# Altium integrated library Linear Technology Power Management PMIC Multifunction.IntLib: 360 symbols (part 3 of 42)
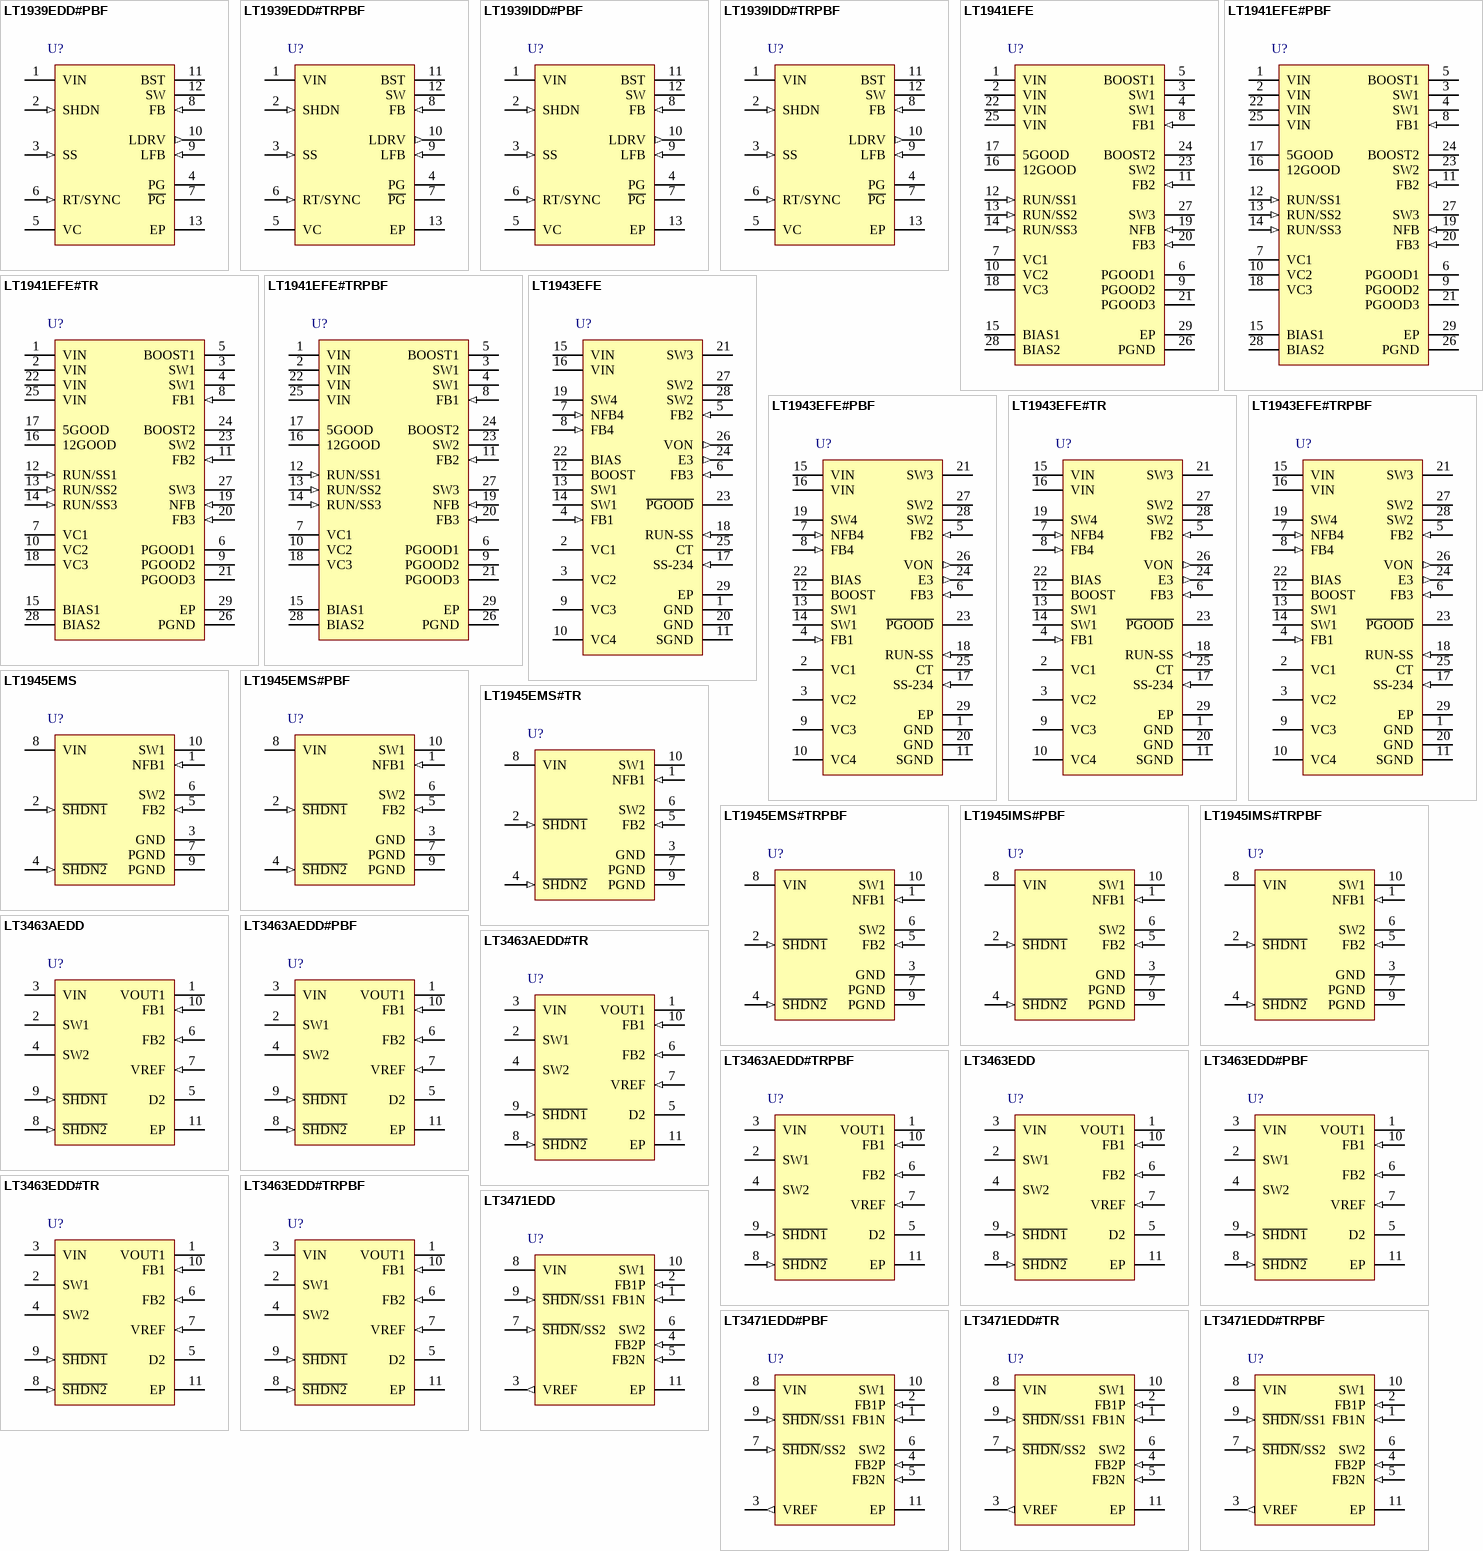
[diagram p20: symbols LT1939EDD#PBF to LT3471EDD#TRPBF]

## LT3463EDD#TRPBF
designator U?
Dual Micropower DC/DC Converters with Schottky Diodes, 2.4 to 15 V Vin, 10-pin SON (DD-10), -40 to 85 degC, Pb-Free, Tape and Reel; Manufacturer: Linear Technology; PartNumber: LT3463EDD#TRPBF; Number of Outputs: 2; Vin Max(V): 15; Vin Min(V): 2.4; PackageVersion: Rev. C, 06/2010; PackageReference: DD-10; PackageDescription: 10-Pin Plastic DFN, Body 3 x 3 mm, Pitch 0.5 mm; Supplier 1: Digi-Key; Supplier Part Number 1: LT3463EDD#TRPBF-ND; Supplier 2: Newark; Supplier Part Number 2: 57M8190; Packing: Tape and Reel; RoHS: TRUE; Mounting Technology: Surface Mount; Code_JEDEC: MO-229; ComponentLink1Description: Manufacturer URL; ComponentLink1URL: http://www.linear.com/; ComponentLink2Description: Datasheet; ComponentLink2URL: http://cds.linear.com/docs/en/datasheet/3463f.pdf; ComponentLink3Description: Package Specification; ComponentLink3URL: http://cds.linear.com/docs/en/packaging/DFN_10_05-08-1699.pdf
footprint LT-DD-10_V (SON, 10-Leads, Body 3x3mm, Pitch 0.5mm, Thermal Pad 2.38x1.65mm)
pins: 1 VOUT1 (power) "Output Voltage Switcher 1. This is the cathode of an internal Schottky diode whose anode is connected to the SW1 pin.", 2 SW1 "Switch Pin for Switcher 1. This is the collector of the internal NPN switch. Minimize the metal trace area connected to this pin to minimize EMI.", 3 VIN (power) "Input Supply Pin. Bypass this pin with a capacitor as close to the device as possible.", 4 SW2 (power) "Switch Pin for Switcher 2. This is the collector of the internal NPN switch. Minimize the metal trace area connected to this pin to minimize EMI.", 5 D2 "Diode for Switcher 2. This is the anode of an internal Schottky diode whose cathode connected to the GND pin.", 6 FB2 (in) "Feedback Pin for Switcher 2. Set the output voltage by selecting values for R3 and R4.", 7 VREF (in) "Voltage Reference Pin (1.25V). This pin is used along with FB2 to set the negative output voltage for Switcher 2.", 8 ~{SHDN2} (in) "Shutdown Pin for Switcher 2. Pull this pin above 1.5V to enable Switcher 2. Pull below 0.3V to turn it off. Do not leave this pin floating.", 9 ~{SHDN1} (in) "Shutdown Pin for Switcher 1. Pull this pin above 1.5V to enable Switcher 1. Pull below 0.3V to turn it off. Do not leave this pin floating.", 10 FB1 (in) "Feedback Pin for Switcher 1. Set the output voltage by selecting values for R1 and R2.", 11 EP (power) "Exposed Pad. Solder this exposed pad directly to the local ground plane. This pad must be electrically connected for proper operation."

## LT3471EDD
designator U?
Dual 1.3 A, 1.2 MHz Boost / Inverter, 2.4 to 16 V Vin, 10-pin SON (DD-10), -40 to 85 degC; Manufacturer: Linear Technology; PartNumber: LT3471EDD; Number of Outputs: 2; Vin Max(V): 16; Vin Min(V): 2.4; DatasheetVersion: Rev. B; PackageReference: DD-10; PackageDescription: 10-Pin Plastic DFN, Body 3 x 3 mm, Pitch 0.5 mm; Supplier 1: Newark; Supplier Part Number 1: 57M8269; RoHS: FALSE; Mounting Technology: Surface Mount; Code_JEDEC: MO-229; ComponentLink1Description: Manufacturer URL; ComponentLink1URL: http://www.linear.com/; ComponentLink2Description: Datasheet; ComponentLink2URL: http://cds.linear.com/docs/en/datasheet/3471fb.pdf; ComponentLink3Description: Package Specification; ComponentLink3URL: http://cds.linear.com/docs/en/datasheet/1618fas.pdf
footprint LT-DD-10-05-08-1698_V (SON, 10-Leads, Body 3x3mm, Pitch 0.5mm, Thermal Pad 1.65x2.38mm)
pins: 1 FB1N (in) "Negative Feedback Pin for Switcher 1. Connect resistive divider tap here. Minimize trace area at FB1N. Set VOUT = VFB1P(1 + R1/R2), or connect to ground for inverting topologies.", 2 FB1P (in) "Positive Feedback Pin for Switcher 1. Connect either to VREF or a divided down version of VREF, or connect to a resistive divider tap for inverting topologies.", 3 VREF (out) "1.00V Reference Pin. Can supply up to 1mA of current. Do not pull this pin high. Must be locally bypassed with no less than 0.01uF and no more than 1uF. A 0.1uF ceramic capacitor is recommended. Use this pin as the positive (See Datasheet)", 4 FB2P (in) "Same as FB1P but for Switcher 2.", 5 FB2N (in) "Same as FB1N but for Switcher 2.", 6 SW2 (power) "Switch Pin for Switcher 2 (Collector of internal NPN power switch). Connect inductor/diode here and minimize the metal trace area connected to this pin to minimize EMI.", 7 ~{SHDN}/SS2 (in) "Shutdown and Soft-Start Pin. Tie to 1.8V or more to enable device. Ground to shut down. Softstart function is provided when the voltage at this pin is ramped slowly to 1.8V with an external RC circuit.", 8 VIN (power) "Input Supply. Must be locally bypassed.", 9 ~{SHDN}/SS1 (in) "Same as S\H\D\N\/SS2 but for Switcher 1. Note: taking either S\H\D\N\/SS pin high will enable the part. Each switcher is individually enabled with its respective S\H\D\N\/SS pin.", 10 SW1 (power) "Same as SW2 but for Switcher 1.", 11 EP (power) "Ground. Connect directly to local ground plane. This ground plane also serves as a heat sink for optimal thermal performance."

## LT3471EDD#PBF
designator U?
Dual 1.3 A, 1.2 MHz Boost / Inverter, 2.4 to 16 V Vin, 10-pin SON (DD-10), -40 to 85 degC, Pb-Free; Manufacturer: Linear Technology; PartNumber: LT3471EDD#PBF; Number of Outputs: 2; Vin Max(V): 16; Vin Min(V): 2.4; DatasheetVersion: Rev. B; PackageReference: DD-10; PackageDescription: 10-Pin Plastic DFN, Body 3 x 3 mm, Pitch 0.5 mm; Supplier 1: Digi-Key; Supplier Part Number 1: LT3471EDD#PBF-ND; Supplier 2: Farnell; Supplier Part Number 2: 1663557; Supplier 3: Newark; Supplier Part Number 3: 57M8270; RoHS: TRUE; Mounting Technology: Surface Mount; Code_JEDEC: MO-229; ComponentLink1Description: Manufacturer URL; ComponentLink1URL: http://www.linear.com/; ComponentLink2Description: Datasheet; ComponentLink2URL: http://cds.linear.com/docs/en/datasheet/3471fb.pdf; ComponentLink3Description: Package Specification; ComponentLink3URL: http://cds.linear.com/docs/en/datasheet/1618fas.pdf
footprint LT-DD-10-05-08-1698_V (SON, 10-Leads, Body 3x3mm, Pitch 0.5mm, Thermal Pad 1.65x2.38mm)
pins: 1 FB1N (in) "Negative Feedback Pin for Switcher 1. Connect resistive divider tap here. Minimize trace area at FB1N. Set VOUT = VFB1P(1 + R1/R2), or connect to ground for inverting topologies.", 2 FB1P (in) "Positive Feedback Pin for Switcher 1. Connect either to VREF or a divided down version of VREF, or connect to a resistive divider tap for inverting topologies.", 3 VREF (out) "1.00V Reference Pin. Can supply up to 1mA of current. Do not pull this pin high. Must be locally bypassed with no less than 0.01uF and no more than 1uF. A 0.1uF ceramic capacitor is recommended. Use this pin as the positive (See Datasheet)", 4 FB2P (in) "Same as FB1P but for Switcher 2.", 5 FB2N (in) "Same as FB1N but for Switcher 2.", 6 SW2 (power) "Switch Pin for Switcher 2 (Collector of internal NPN power switch). Connect inductor/diode here and minimize the metal trace area connected to this pin to minimize EMI.", 7 ~{SHDN}/SS2 (in) "Shutdown and Soft-Start Pin. Tie to 1.8V or more to enable device. Ground to shut down. Softstart function is provided when the voltage at this pin is ramped slowly to 1.8V with an external RC circuit.", 8 VIN (power) "Input Supply. Must be locally bypassed.", 9 ~{SHDN}/SS1 (in) "Same as S\H\D\N\/SS2 but for Switcher 1. Note: taking either S\H\D\N\/SS pin high will enable the part. Each switcher is individually enabled with its respective S\H\D\N\/SS pin.", 10 SW1 (power) "Same as SW2 but for Switcher 1.", 11 EP (power) "Ground. Connect directly to local ground plane. This ground plane also serves as a heat sink for optimal thermal performance."

## LT3471EDD#TR
designator U?
Dual 1.3 A, 1.2 MHz Boost / Inverter, 2.4 to 16 V Vin, 10-pin SON (DD-10), -40 to 85 degC, Tape and Reel; Manufacturer: Linear Technology; PartNumber: LT3471EDD#TR; Number of Outputs: 2; Vin Max(V): 16; Vin Min(V): 2.4; DatasheetVersion: Rev. B; PackageReference: DD-10; PackageDescription: 10-Pin Plastic DFN, Body 3 x 3 mm, Pitch 0.5 mm; Supplier 1: Newark; Supplier Part Number 1: 57M8271; Packing: Tape and Reel; RoHS: FALSE; Mounting Technology: Surface Mount; Code_JEDEC: MO-229; ComponentLink1Description: Manufacturer URL; ComponentLink1URL: http://www.linear.com/; ComponentLink2Description: Datasheet; ComponentLink2URL: http://cds.linear.com/docs/en/datasheet/3471fb.pdf; ComponentLink3Description: Package Specification; ComponentLink3URL: http://cds.linear.com/docs/en/datasheet/1618fas.pdf
footprint LT-DD-10-05-08-1698_V (SON, 10-Leads, Body 3x3mm, Pitch 0.5mm, Thermal Pad 1.65x2.38mm)
pins: 1 FB1N (in) "Negative Feedback Pin for Switcher 1. Connect resistive divider tap here. Minimize trace area at FB1N. Set VOUT = VFB1P(1 + R1/R2), or connect to ground for inverting topologies.", 2 FB1P (in) "Positive Feedback Pin for Switcher 1. Connect either to VREF or a divided down version of VREF, or connect to a resistive divider tap for inverting topologies.", 3 VREF (out) "1.00V Reference Pin. Can supply up to 1mA of current. Do not pull this pin high. Must be locally bypassed with no less than 0.01uF and no more than 1uF. A 0.1uF ceramic capacitor is recommended. Use this pin as the positive (See Datasheet)", 4 FB2P (in) "Same as FB1P but for Switcher 2.", 5 FB2N (in) "Same as FB1N but for Switcher 2.", 6 SW2 (power) "Switch Pin for Switcher 2 (Collector of internal NPN power switch). Connect inductor/diode here and minimize the metal trace area connected to this pin to minimize EMI.", 7 ~{SHDN}/SS2 (in) "Shutdown and Soft-Start Pin. Tie to 1.8V or more to enable device. Ground to shut down. Softstart function is provided when the voltage at this pin is ramped slowly to 1.8V with an external RC circuit.", 8 VIN (power) "Input Supply. Must be locally bypassed.", 9 ~{SHDN}/SS1 (in) "Same as S\H\D\N\/SS2 but for Switcher 1. Note: taking either S\H\D\N\/SS pin high will enable the part. Each switcher is individually enabled with its respective S\H\D\N\/SS pin.", 10 SW1 (power) "Same as SW2 but for Switcher 1.", 11 EP (power) "Ground. Connect directly to local ground plane. This ground plane also serves as a heat sink for optimal thermal performance."

## LT3471EDD#TRPBF
designator U?
Dual 1.3 A, 1.2 MHz Boost / Inverter, 2.4 to 16 V Vin, 10-pin SON (DD-10), -40 to 85 degC, Pb-Free, Tape and Reel; Manufacturer: Linear Technology; PartNumber: LT3471EDD#TRPBF; Number of Outputs: 2; Vin Max(V): 16; Vin Min(V): 2.4; DatasheetVersion: Rev. B; PackageReference: DD-10; PackageDescription: 10-Pin Plastic DFN, Body 3 x 3 mm, Pitch 0.5 mm; Supplier 1: Digi-Key; Supplier Part Number 1: LT3471EDD#TRPBFTR-ND; Supplier 2: Digi-Key; Supplier Part Number 2: LT3471EDD#TRPBFCT-ND; Supplier 3: Digi-Key; Supplier Part Number 3: LT3471EDD#TRPBFDKR-ND; Supplier 4: Newark; Supplier Part Number 4: 57M8272; Packing: Tape and Reel; RoHS: TRUE; Mounting Technology: Surface Mount; Code_JEDEC: MO-229; ComponentLink1Description: Manufacturer URL; ComponentLink1URL: http://www.linear.com/; ComponentLink2Description: Datasheet; ComponentLink2URL: http://cds.linear.com/docs/en/datasheet/3471fb.pdf; ComponentLink3Description: Package Specification; ComponentLink3URL: http://cds.linear.com/docs/en/datasheet/1618fas.pdf
footprint LT-DD-10-05-08-1698_V (SON, 10-Leads, Body 3x3mm, Pitch 0.5mm, Thermal Pad 1.65x2.38mm)
pins: 1 FB1N (in) "Negative Feedback Pin for Switcher 1. Connect resistive divider tap here. Minimize trace area at FB1N. Set VOUT = VFB1P(1 + R1/R2), or connect to ground for inverting topologies.", 2 FB1P (in) "Positive Feedback Pin for Switcher 1. Connect either to VREF or a divided down version of VREF, or connect to a resistive divider tap for inverting topologies.", 3 VREF (out) "1.00V Reference Pin. Can supply up to 1mA of current. Do not pull this pin high. Must be locally bypassed with no less than 0.01uF and no more than 1uF. A 0.1uF ceramic capacitor is recommended. Use this pin as the positive (See Datasheet)", 4 FB2P (in) "Same as FB1P but for Switcher 2.", 5 FB2N (in) "Same as FB1N but for Switcher 2.", 6 SW2 (power) "Switch Pin for Switcher 2 (Collector of internal NPN power switch). Connect inductor/diode here and minimize the metal trace area connected to this pin to minimize EMI.", 7 ~{SHDN}/SS2 (in) "Shutdown and Soft-Start Pin. Tie to 1.8V or more to enable device. Ground to shut down. Softstart function is provided when the voltage at this pin is ramped slowly to 1.8V with an external RC circuit.", 8 VIN (power) "Input Supply. Must be locally bypassed.", 9 ~{SHDN}/SS1 (in) "Same as S\H\D\N\/SS2 but for Switcher 1. Note: taking either S\H\D\N\/SS pin high will enable the part. Each switcher is individually enabled with its respective S\H\D\N\/SS pin.", 10 SW1 (power) "Same as SW2 but for Switcher 1.", 11 EP (power) "Ground. Connect directly to local ground plane. This ground plane also serves as a heat sink for optimal thermal performance."

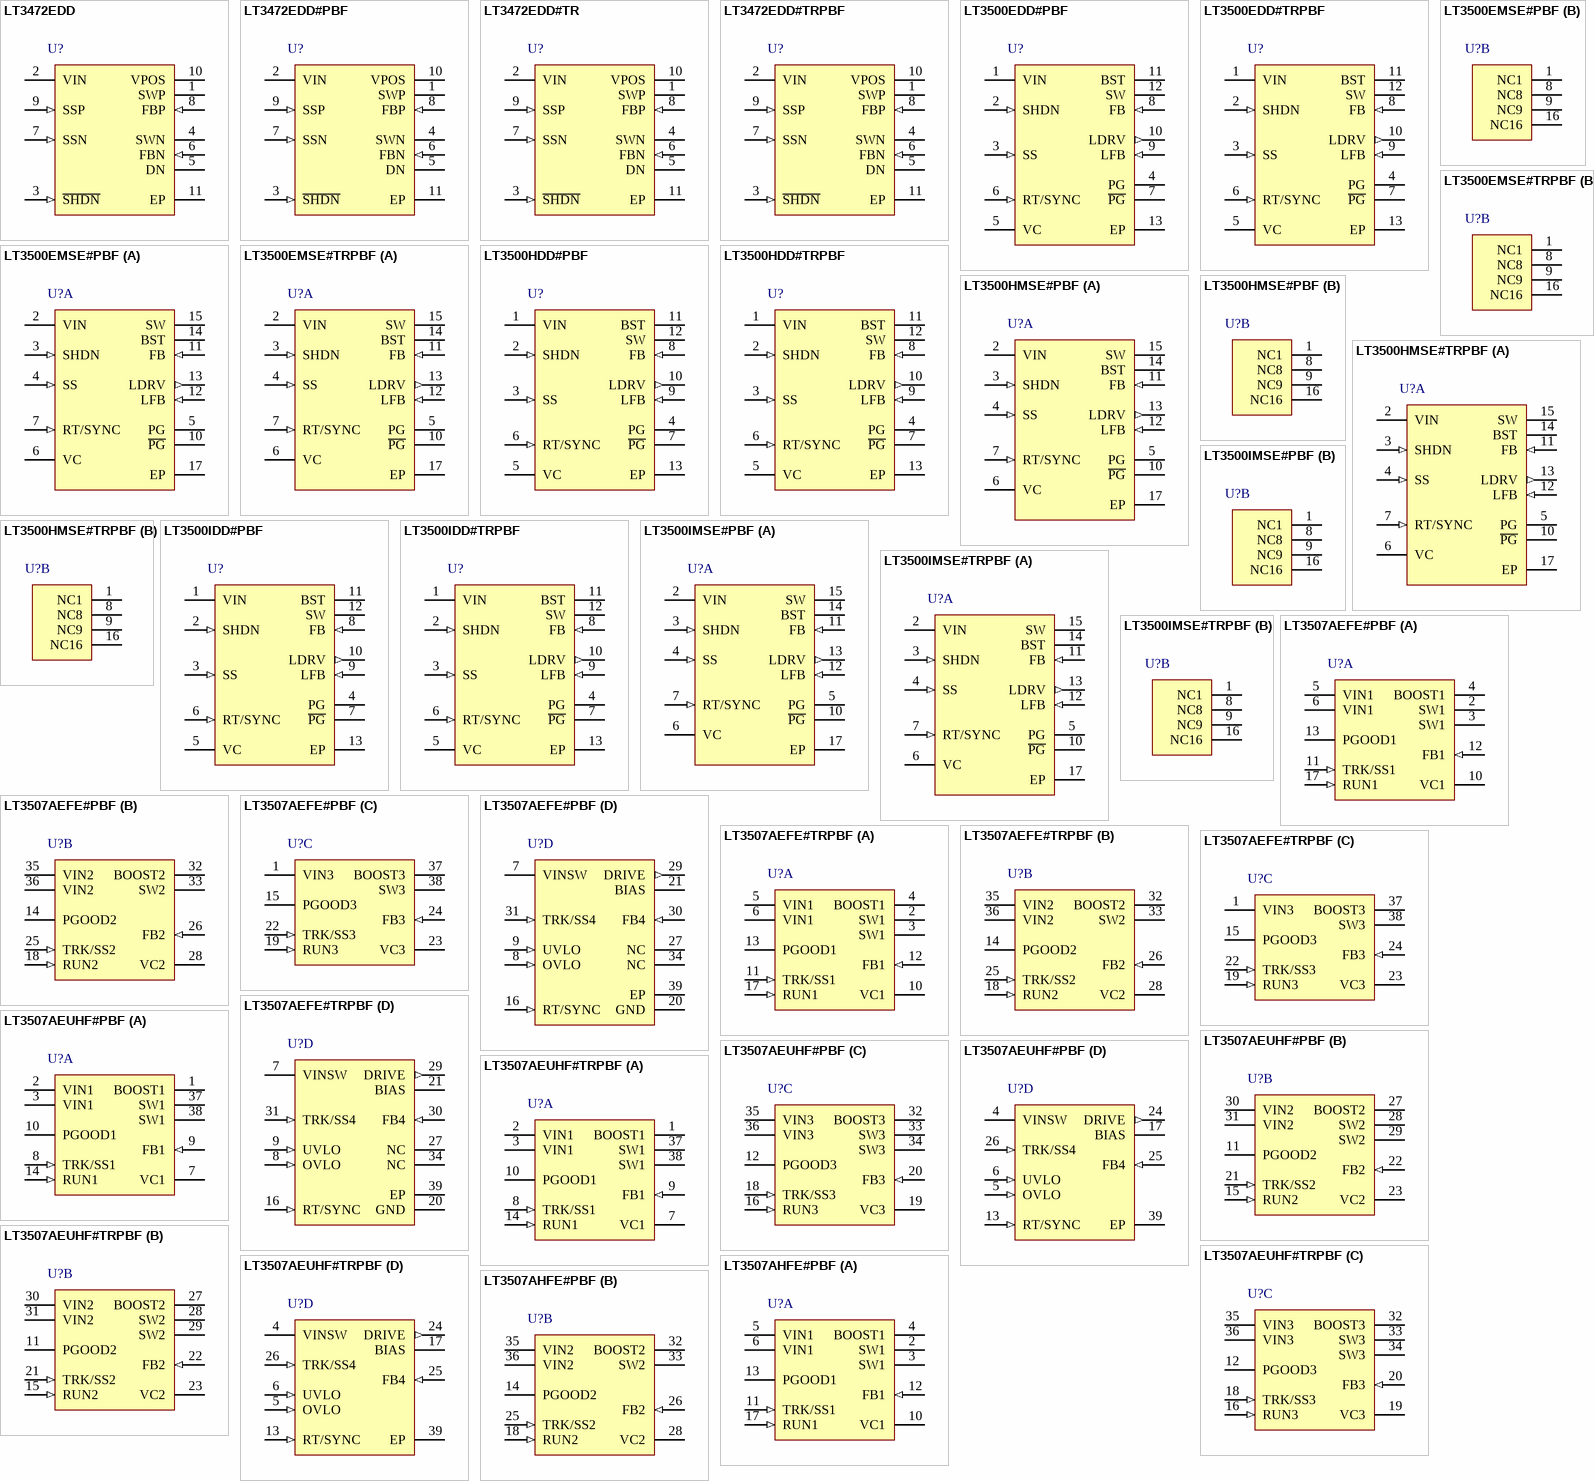
[diagram p1: symbols LT3472EDD to LT3507AHFE#PBF]

## LT3472EDD
designator U?
Boost and Inverting DC/DC Converter for CCD Bias, 2.2 to 16 V Vin, 10-pin SON (DD-10), -40 to 85 degC; Manufacturer: Linear Technology; PartNumber: LT3472EDD; Number of Outputs: 2; Vin Max(V): 16; Vin Min(V): 2.2; PackageVersion: Rev. C, 06/2010; PackageReference: DD-10; PackageDescription: 10-Pin Plastic DFN, Body 3 x 3 mm, Pitch 0.5 mm; Supplier 1: Digi-Key; Supplier Part Number 1: LT3472EDD-ND; Supplier 2: Newark; Supplier Part Number 2: 57M8273; RoHS: FALSE; Mounting Technology: Surface Mount; Code_JEDEC: MO-229; ComponentLink1Description: Manufacturer URL; ComponentLink1URL: http://www.linear.com/; ComponentLink2Description: Datasheet; ComponentLink2URL: http://cds.linear.com/docs/en/datasheet/3472f.pdf; ComponentLink3Description: Package Specification; ComponentLink3URL: http://cds.linear.com/docs/en/packaging/DFN_10_05-08-1699.pdf
footprint LT-DD-10_V (SON, 10-Leads, Body 3x3mm, Pitch 0.5mm, Thermal Pad 2.38x1.65mm)
pins: 1 SWP (power) "Switch Pin for Positive (Boost) Channel. Connect boost inductor here.", 2 VIN (power) "Input Supply Pin. Must be locally bypassed with a X5R or X7R type ceramic capacitor.", 3 ~{SHDN} (in) "Shutdown Pin. Connect to 0.8V or higher to enable device, 0.3V or less to disable device.", 4 SWN (power) "Switch Pin for Negative (Inverter) Channel. Connect inverter input inductor and flying capacitor here.", 5 DN "Anode of Internal Schottky for Inverter. Connect inverter output inductor and flying capacitor here.", 6 FBN (in) "Feedback Pin for Inverter. Connect feedback resistor R2 from this pin to VO2. Choose R2 according to VO2 = 1.25 ?R2/50k. Pin voltage = 0V when regulated.", 7 SSN (in) "Soft Start-Up Pin for Inverter. Connect a cap here for soft start-up. Leave open for quick start-up. This pin is connected to 1.25V with a 50k resistor internally.", 8 FBP (in) "Feedback Pin for Boost. Connect boost feedback resistor R1 from this Pin to VO1. Choose R1 according to VO1 = 1.25 ?(1 + R1/50k). Pin voltage = 1.25V when regulated.", 9 SSP (in) "Soft Start-Up Pin for Boost. Connect a cap here for soft start-up. Leave open for quick start-up. This pin is connected to 1.25V with a 50k resistor internally.", 10 VPOS (power) "Output Pin for Boost. Connect boost output capacitor here.", 11 EP (power) "GND Pin. Tie directly to ground plane through multiple vias under the package for optimum thermal performance."

## LT3472EDD#PBF
designator U?
Boost and Inverting DC/DC Converter for CCD Bias, 2.2 to 16 V Vin, 10-pin SON (DD-10), -40 to 85 degC, Pb-Free; Manufacturer: Linear Technology; PartNumber: LT3472EDD#PBF; Number of Outputs: 2; Vin Max(V): 16; Vin Min(V): 2.2; PackageVersion: Rev. C, 06/2010; PackageReference: DD-10; PackageDescription: 10-Pin Plastic DFN, Body 3 x 3 mm, Pitch 0.5 mm; Supplier 1: Digi-Key; Supplier Part Number 1: LT3472EDD#PBF-ND; Supplier 2: Farnell; Supplier Part Number 2: 2294905; Supplier 3: Newark; Supplier Part Number 3: 57M8274; RoHS: TRUE; Mounting Technology: Surface Mount; Code_JEDEC: MO-229; ComponentLink1Description: Manufacturer URL; ComponentLink1URL: http://www.linear.com/; ComponentLink2Description: Datasheet; ComponentLink2URL: http://cds.linear.com/docs/en/datasheet/3472f.pdf; ComponentLink3Description: Package Specification; ComponentLink3URL: http://cds.linear.com/docs/en/packaging/DFN_10_05-08-1699.pdf
footprint LT-DD-10_V (SON, 10-Leads, Body 3x3mm, Pitch 0.5mm, Thermal Pad 2.38x1.65mm)
pins: 1 SWP (power) "Switch Pin for Positive (Boost) Channel. Connect boost inductor here.", 2 VIN (power) "Input Supply Pin. Must be locally bypassed with a X5R or X7R type ceramic capacitor.", 3 ~{SHDN} (in) "Shutdown Pin. Connect to 0.8V or higher to enable device, 0.3V or less to disable device.", 4 SWN (power) "Switch Pin for Negative (Inverter) Channel. Connect inverter input inductor and flying capacitor here.", 5 DN "Anode of Internal Schottky for Inverter. Connect inverter output inductor and flying capacitor here.", 6 FBN (in) "Feedback Pin for Inverter. Connect feedback resistor R2 from this pin to VO2. Choose R2 according to VO2 = 1.25 ?R2/50k. Pin voltage = 0V when regulated.", 7 SSN (in) "Soft Start-Up Pin for Inverter. Connect a cap here for soft start-up. Leave open for quick start-up. This pin is connected to 1.25V with a 50k resistor internally.", 8 FBP (in) "Feedback Pin for Boost. Connect boost feedback resistor R1 from this Pin to VO1. Choose R1 according to VO1 = 1.25 ?(1 + R1/50k). Pin voltage = 1.25V when regulated.", 9 SSP (in) "Soft Start-Up Pin for Boost. Connect a cap here for soft start-up. Leave open for quick start-up. This pin is connected to 1.25V with a 50k resistor internally.", 10 VPOS (power) "Output Pin for Boost. Connect boost output capacitor here.", 11 EP (power) "GND Pin. Tie directly to ground plane through multiple vias under the package for optimum thermal performance."

## LT3472EDD#TR
designator U?
Boost and Inverting DC/DC Converter for CCD Bias, 2.2 to 16 V Vin, 10-pin SON (DD-10), -40 to 85 degC, Tape and Reel; Manufacturer: Linear Technology; PartNumber: LT3472EDD#TR; Number of Outputs: 2; Vin Max(V): 16; Vin Min(V): 2.2; PackageVersion: Rev. C, 06/2010; PackageReference: DD-10; PackageDescription: 10-Pin Plastic DFN, Body 3 x 3 mm, Pitch 0.5 mm; Supplier 1: Digi-Key; Supplier Part Number 1: LT3472EDD#TR-ND; Packing: Tape and Reel; RoHS: FALSE; Mounting Technology: Surface Mount; Code_JEDEC: MO-229; ComponentLink1Description: Manufacturer URL; ComponentLink1URL: http://www.linear.com/; ComponentLink2Description: Datasheet; ComponentLink2URL: http://cds.linear.com/docs/en/datasheet/3472f.pdf; ComponentLink3Description: Package Specification; ComponentLink3URL: http://cds.linear.com/docs/en/packaging/DFN_10_05-08-1699.pdf
footprint LT-DD-10_V (SON, 10-Leads, Body 3x3mm, Pitch 0.5mm, Thermal Pad 2.38x1.65mm)
pins: 1 SWP (power) "Switch Pin for Positive (Boost) Channel. Connect boost inductor here.", 2 VIN (power) "Input Supply Pin. Must be locally bypassed with a X5R or X7R type ceramic capacitor.", 3 ~{SHDN} (in) "Shutdown Pin. Connect to 0.8V or higher to enable device, 0.3V or less to disable device.", 4 SWN (power) "Switch Pin for Negative (Inverter) Channel. Connect inverter input inductor and flying capacitor here.", 5 DN "Anode of Internal Schottky for Inverter. Connect inverter output inductor and flying capacitor here.", 6 FBN (in) "Feedback Pin for Inverter. Connect feedback resistor R2 from this pin to VO2. Choose R2 according to VO2 = 1.25 ?R2/50k. Pin voltage = 0V when regulated.", 7 SSN (in) "Soft Start-Up Pin for Inverter. Connect a cap here for soft start-up. Leave open for quick start-up. This pin is connected to 1.25V with a 50k resistor internally.", 8 FBP (in) "Feedback Pin for Boost. Connect boost feedback resistor R1 from this Pin to VO1. Choose R1 according to VO1 = 1.25 ?(1 + R1/50k). Pin voltage = 1.25V when regulated.", 9 SSP (in) "Soft Start-Up Pin for Boost. Connect a cap here for soft start-up. Leave open for quick start-up. This pin is connected to 1.25V with a 50k resistor internally.", 10 VPOS (power) "Output Pin for Boost. Connect boost output capacitor here.", 11 EP (power) "GND Pin. Tie directly to ground plane through multiple vias under the package for optimum thermal performance."

## LT3472EDD#TRPBF
designator U?
Boost and Inverting DC/DC Converter for CCD Bias, 2.2 to 16 V Vin, 10-pin SON (DD-10), -40 to 85 degC, Pb-Free, Tape and Reel; Manufacturer: Linear Technology; PartNumber: LT3472EDD#TRPBF; Number of Outputs: 2; Vin Max(V): 16; Vin Min(V): 2.2; PackageVersion: Rev. C, 06/2010; PackageReference: DD-10; PackageDescription: 10-Pin Plastic DFN, Body 3 x 3 mm, Pitch 0.5 mm; Supplier 1: Digi-Key; Supplier Part Number 1: LT3472EDD#TRPBF-ND; Packing: Tape and Reel; RoHS: TRUE; Mounting Technology: Surface Mount; Code_JEDEC: MO-229; ComponentLink1Description: Manufacturer URL; ComponentLink1URL: http://www.linear.com/; ComponentLink2Description: Datasheet; ComponentLink2URL: http://cds.linear.com/docs/en/datasheet/3472f.pdf; ComponentLink3Description: Package Specification; ComponentLink3URL: http://cds.linear.com/docs/en/packaging/DFN_10_05-08-1699.pdf
footprint LT-DD-10_V (SON, 10-Leads, Body 3x3mm, Pitch 0.5mm, Thermal Pad 2.38x1.65mm)
pins: 1 SWP (power) "Switch Pin for Positive (Boost) Channel. Connect boost inductor here.", 2 VIN (power) "Input Supply Pin. Must be locally bypassed with a X5R or X7R type ceramic capacitor.", 3 ~{SHDN} (in) "Shutdown Pin. Connect to 0.8V or higher to enable device, 0.3V or less to disable device.", 4 SWN (power) "Switch Pin for Negative (Inverter) Channel. Connect inverter input inductor and flying capacitor here.", 5 DN "Anode of Internal Schottky for Inverter. Connect inverter output inductor and flying capacitor here.", 6 FBN (in) "Feedback Pin for Inverter. Connect feedback resistor R2 from this pin to VO2. Choose R2 according to VO2 = 1.25 ?R2/50k. Pin voltage = 0V when regulated.", 7 SSN (in) "Soft Start-Up Pin for Inverter. Connect a cap here for soft start-up. Leave open for quick start-up. This pin is connected to 1.25V with a 50k resistor internally.", 8 FBP (in) "Feedback Pin for Boost. Connect boost feedback resistor R1 from this Pin to VO1. Choose R1 according to VO1 = 1.25 ?(1 + R1/50k). Pin voltage = 1.25V when regulated.", 9 SSP (in) "Soft Start-Up Pin for Boost. Connect a cap here for soft start-up. Leave open for quick start-up. This pin is connected to 1.25V with a 50k resistor internally.", 10 VPOS (power) "Output Pin for Boost. Connect boost output capacitor here.", 11 EP (power) "GND Pin. Tie directly to ground plane through multiple vias under the package for optimum thermal performance."

## LT3500EDD#PBF
designator U?
Monolithic 2 A Step-Down Regulator Plus Linear Regulator / Controller, 3 to 36 V Vin, 12-pin SON (DD-12), -40 to 125 degC, Pb-Free; Manufacturer: Linear Technology; PartNumber: LT3500EDD#PBF; Number of Outputs: 2; Vin Max(V): 36; Vin Min(V): 3; DatasheetVersion: Rev. C; PackageVersion: Rev. A, 06/2010; PackageReference: DD-12; PackageDescription: 12-Pin Plastic DFN, Body 3 x 3 mm, Pitch 0.45 mm; Supplier 1: Digi-Key; Supplier Part Number 1: LT3500EDD#PBF-ND; Supplier 2: Newark; Supplier Part Number 2: 57M8446; RoHS: TRUE; Mounting Technology: Surface Mount; ComponentLink1Description: Manufacturer URL; ComponentLink1URL: http://www.linear.com/; ComponentLink2Description: Datasheet; ComponentLink2URL: http://cds.linear.com/docs/en/datasheet/3500fc.pdf; ComponentLink3Description: Package Specification; ComponentLink3URL: http://cds.linear.com/docs/en/packaging/DFN_12_05-08-1725.pdf
footprint LT-DD-12_V (SON, 12-Leads, Body 3x3mm, Pitch 0.45mm, Thermal Pad 2.38x1.65mm)
pins: 1 VIN (power) "The VIN pin powers the internal control circuitry and is monitored by an undervoltage comparator. The VIN pin is also connected to the collectors of the internal power NPN switch and linear output NPN. The VIN pin has high (See Datasheet)", 2 SHDN (in), 3 SS (in) "The SS pin is used to control the slew rate of the output of both the switching and linear regulators. A single capacitor from the SS pin to ground determines the regulators’ ramp rate. For soft-start details see th(See Datasheet)", 4 PG (oc) "The power good pin is an open-collector output that sinks current when the FB or LFB falls below 90% of its nominal regulating voltage. For VIN above 2V, its output state remains true, although during SHDN, VIN undervoltage (See Datasheet)", 5 VC "The VC pin is the output of the error amplifier and the input to the peak switch current comparator. It is normally used for frequency compensation, but can also be used as a current clamp or control loop override. If the (See Datasheet)", 6 RT/SYNC (in) "This RT/SYNC pin provides two modes of setting the constant switch frequency. Connecting a resistor from the RT/SYNC pin to ground will set the RT/SYNC pin to a typical value of 1V. The resultant switching frequency will be (See Datasheet)", 7 ~{PG} (oc) "The power good bar pin is an open-collector output that sinks current when the FB or LFB rises above 90% of its nominal regulating voltage.", 8 FB (in) "The FB pin is the negative input to the switcher error amplifier. The output switches to regulate this pin to 0.8V with respect to the exposed ground pad. Bias current flows out of the FB pin.", 9 LFB (in) "The LFB pin is the negative input to the linear error amplifier. The LDRV pin servo’s to regulate this pin to 0.8V with respect to the exposed ground pad. Bias current flows out of the LFB pin.", 10 LDRV (out) "The LDRV pin is the emitter of an internal NPN that can be configured as an output of a linear regulator or as the drive for an external NPN high current regulator. Current fl ows out of the LDRV pin when the LFB pin voltage (See Datasheet)", 11 BST "The BST pin provides a higher than VIN base drive to the power NPN to ensure a low switch drop. A comparator to VIN imposes a minimum off time on the SW pin if the BST pin voltage drops too low. Forcing a SW off time allows (See Datasheet)", 12 SW (power) "The SW pin is the emitter of the on-chip power NPN. At switch off, the inductor will drive this pin below ground with a high dV/dt. An external catch diode to ground, close to the SW pin and respective VIN decoupling (See Datasheet)", 13 EP (power) "GND. The Exposed Pad is the only ground connection for the device. The Exposed Pad should be soldered to a large copper area to reduce thermal resistance. The GND pin also serves as small-signal ground. For ideal operation (See Datasheet)"

## LT3500EDD#TRPBF
designator U?
Monolithic 2 A Step-Down Regulator Plus Linear Regulator / Controller, 3 to 36 V Vin, 12-pin SON (DD-12), -40 to 125 degC, Pb-Free, Tape and Reel; Manufacturer: Linear Technology; PartNumber: LT3500EDD#TRPBF; Number of Outputs: 2; Vin Max(V): 36; Vin Min(V): 3; DatasheetVersion: Rev. C; PackageVersion: Rev. A, 06/2010; PackageReference: DD-12; PackageDescription: 12-Pin Plastic DFN, Body 3 x 3 mm, Pitch 0.45 mm; Supplier 1: Digi-Key; Supplier Part Number 1: LT3500EDD#TRPBF-ND; Packing: Tape and Reel; RoHS: TRUE; Mounting Technology: Surface Mount; ComponentLink1Description: Manufacturer URL; ComponentLink1URL: http://www.linear.com/; ComponentLink2Description: Datasheet; ComponentLink2URL: http://cds.linear.com/docs/en/datasheet/3500fc.pdf; ComponentLink3Description: Package Specification; ComponentLink3URL: http://cds.linear.com/docs/en/packaging/DFN_12_05-08-1725.pdf
footprint LT-DD-12_V (SON, 12-Leads, Body 3x3mm, Pitch 0.45mm, Thermal Pad 2.38x1.65mm)
pins: 1 VIN (power) "The VIN pin powers the internal control circuitry and is monitored by an undervoltage comparator. The VIN pin is also connected to the collectors of the internal power NPN switch and linear output NPN. The VIN pin has high (See Datasheet)", 2 SHDN (in), 3 SS (in) "The SS pin is used to control the slew rate of the output of both the switching and linear regulators. A single capacitor from the SS pin to ground determines the regulators’ ramp rate. For soft-start details see th(See Datasheet)", 4 PG (oc) "The power good pin is an open-collector output that sinks current when the FB or LFB falls below 90% of its nominal regulating voltage. For VIN above 2V, its output state remains true, although during SHDN, VIN undervoltage (See Datasheet)", 5 VC "The VC pin is the output of the error amplifier and the input to the peak switch current comparator. It is normally used for frequency compensation, but can also be used as a current clamp or control loop override. If the (See Datasheet)", 6 RT/SYNC (in) "This RT/SYNC pin provides two modes of setting the constant switch frequency. Connecting a resistor from the RT/SYNC pin to ground will set the RT/SYNC pin to a typical value of 1V. The resultant switching frequency will be (See Datasheet)", 7 ~{PG} (oc) "The power good bar pin is an open-collector output that sinks current when the FB or LFB rises above 90% of its nominal regulating voltage.", 8 FB (in) "The FB pin is the negative input to the switcher error amplifier. The output switches to regulate this pin to 0.8V with respect to the exposed ground pad. Bias current flows out of the FB pin.", 9 LFB (in) "The LFB pin is the negative input to the linear error amplifier. The LDRV pin servo’s to regulate this pin to 0.8V with respect to the exposed ground pad. Bias current flows out of the LFB pin.", 10 LDRV (out) "The LDRV pin is the emitter of an internal NPN that can be configured as an output of a linear regulator or as the drive for an external NPN high current regulator. Current fl ows out of the LDRV pin when the LFB pin voltage (See Datasheet)", 11 BST "The BST pin provides a higher than VIN base drive to the power NPN to ensure a low switch drop. A comparator to VIN imposes a minimum off time on the SW pin if the BST pin voltage drops too low. Forcing a SW off time allows (See Datasheet)", 12 SW (power) "The SW pin is the emitter of the on-chip power NPN. At switch off, the inductor will drive this pin below ground with a high dV/dt. An external catch diode to ground, close to the SW pin and respective VIN decoupling (See Datasheet)", 13 EP (power) "GND. The Exposed Pad is the only ground connection for the device. The Exposed Pad should be soldered to a large copper area to reduce thermal resistance. The GND pin also serves as small-signal ground. For ideal operation (See Datasheet)"

## LT3500EMSE#PBF
designator U?
Monolithic 2 A Step-Down Regulator Plus Linear Regulator / Controller, 3 to 36 V Vin, 16-pin SOP (MSE-16-EDP), -40 to 125 degC, Pb-Free; Manufacturer: Linear Technology; PartNumber: LT3500EMSE#PBF; Number of Outputs: 2; Vin Max(V): 36; Vin Min(V): 3; DatasheetVersion: Rev. C; PackageVersion: Rev. F, 05/2013; PackageReference: MSE-16; PackageDescription: 16-Pin Plastic MSOP, Exposed Die Pad, Body 4.039 x 3 mm, Pitch 0.5 mm; Supplier 1: Digi-Key; Supplier Part Number 1: LT3500EMSE#PBF-ND; Supplier 2: Farnell; Supplier Part Number 2: 1673517; Supplier 3: Newark; Supplier Part Number 3: 12P8627; RoHS: TRUE; Mounting Technology: Surface Mount; ComponentLink1Description: Manufacturer URL; ComponentLink1URL: http://www.linear.com/; ComponentLink2Description: Datasheet; ComponentLink2URL: http://cds.linear.com/docs/en/datasheet/3500fc.pdf; ComponentLink3Description: Package Specification; ComponentLink3URL: http://cds.linear.com/docs/en/packaging/05081667_F_MSE16.pdf
footprint LT-MSE-16-EDP_N (SOP, 16-Leads, Body 4.1x3.1mm, Pitch 0.5mm, Thermal Pad 2.95x1.76mm, IPC Medium Density)
footprint LT-MSE-16-EDP_L (SOP, 16-Leads, Body 4.1x3.1mm, Pitch 0.5mm, Thermal Pad 2.95x1.76mm, IPC High Density)
footprint LT-MSE-16-EDP_M (SOP, 16-Leads, Body 4.1x3.1mm, Pitch 0.5mm, Thermal Pad 2.95x1.76mm, IPC Low Density)
part A pins: 2 VIN (power) "The VIN pin powers the internal control circuitry and is monitored by an undervoltage comparator. The VIN pin is also connected to the collectors of the internal power NPN switch and linear output NPN. The VIN pin has high (See Datasheet)", 3 SHDN (in) "The SHDN pin is used to shut down the LT3500 and reduce quiescent current to a typical value of 12uA. The accurate 0.76V threshold and input current hysteresis can be used as an undervoltage lockout, preventing the regulator (See Datasheet)", 4 SS (in) "The SS pin is used to control the slew rate of the output of both the switching and linear regulators. A single capacitor from the SS pin to ground determines the regulators?ramp rate. For soft-start details see th(See Datasheet)", 5 PG (oc) "The power good pin is an open-collector output that sinks current when the FB or LFB falls below 90% of its nominal regulating voltage. For VIN above 2V, its output state remains true, although during SHDN, VIN undervoltage (See Datasheet)", 6 VC "The VC pin is the output of the error amplifier and the input to the peak switch current comparator. It is normally used for frequency compensation, but can also be used as a current clamp or control loop override. If the (See Datasheet)", 7 RT/SYNC (in) "This RT/SYNC pin provides two modes of setting the constant switch frequency. Connecting a resistor from the RT/SYNC pin to ground will set the RT/SYNC pin to a typical value of 1V. The resultant switching frequency will be (See Datasheet)", 10 ~{PG} (oc) "The power good bar pin is an open-collector output that sinks current when the FB or LFB rises above 90% of its nominal regulating voltage.", 11 FB (in) "The FB pin is the negative input to the switcher error amplifier. The output switches to regulate this pin to 0.8V with respect to the exposed ground pad. Bias current flows out of the FB pin.", 12 LFB (in) "The LFB pin is the negative input to the linear error amplifier. The LDRV pin servo’s to regulate this pin to 0.8V with respect to the exposed ground pad. Bias current flows out of the LFB pin.", 13 LDRV (out) "The LDRV pin is the emitter of an internal NPN that can be confi gured as an output of a linear regulator or as the drive for an external NPN high current regulator. Current flows out of the LDRV pin when the LFB pin voltage (See Datasheet)", 14 BST "The BST pin provides a higher than VIN base drive to the power NPN to ensure a low switch drop. A comparator to VIN imposes a minimum off time on the SW pin if the BST pin voltage drops too low. Forcing a SW off time allows (See Datasheet)", 15 SW (power) "The SW pin is the emitter of the on-chip power NPN. At switch off, the inductor will drive this pin below ground with a high dV/dt. An external catch diode to ground, close to the SW pin and respective VIN decoupling (See Datasheet)", 17 EP (power) "GND. The exposed pad is the only ground connection for the device. The exposed pad should be soldered to a large copper area to reduce thermal resistance. The GND pin also serves as small-signal ground. For ideal operation (See Datasheet)"
part B pins: 1 NC1 "No Connection. The NC pins are electrically isolated from the LT3500. The NC pins may be connected to PCB traces to aid PCB layout.", 8 NC8 "No Connection. The NC pins are electrically isolated from the LT3500. The NC pins may be connected to PCB traces to aid PCB layout.", 9 NC9 "No Connection. The NC pins are electrically isolated from the LT3500. The NC pins may be connected to PCB traces to aid PCB layout.", 16 NC16 "No Connection. The NC pins are electrically isolated from the LT3500. The NC pins may be connected to PCB traces to aid PCB layout."

## LT3500EMSE#TRPBF
designator U?
Monolithic 2 A Step-Down Regulator Plus Linear Regulator / Controller, 3 to 36 V Vin, 16-pin SOP (MSE-16-EDP), -40 to 125 degC, Pb-Free, Tape and Reel; Manufacturer: Linear Technology; PartNumber: LT3500EMSE#TRPBF; Number of Outputs: 2; Vin Max(V): 36; Vin Min(V): 3; DatasheetVersion: Rev. C; PackageVersion: Rev. F, 05/2013; PackageReference: MSE-16; PackageDescription: 16-Pin Plastic MSOP, Exposed Die Pad, Body 4.039 x 3 mm, Pitch 0.5 mm; Supplier 1: Digi-Key; Supplier Part Number 1: LT3500EMSE#TRPBF-ND; Supplier 2: Newark; Supplier Part Number 2: 31P7612; Packing: Tape and Reel; RoHS: TRUE; Mounting Technology: Surface Mount; ComponentLink1Description: Manufacturer URL; ComponentLink1URL: http://www.linear.com/; ComponentLink2Description: Datasheet; ComponentLink2URL: http://cds.linear.com/docs/en/datasheet/3500fc.pdf; ComponentLink3Description: Package Specification; ComponentLink3URL: http://cds.linear.com/docs/en/packaging/05081667_F_MSE16.pdf
footprint LT-MSE-16-EDP_N (SOP, 16-Leads, Body 4.1x3.1mm, Pitch 0.5mm, Thermal Pad 2.95x1.76mm, IPC Medium Density)
footprint LT-MSE-16-EDP_L (SOP, 16-Leads, Body 4.1x3.1mm, Pitch 0.5mm, Thermal Pad 2.95x1.76mm, IPC High Density)
footprint LT-MSE-16-EDP_M (SOP, 16-Leads, Body 4.1x3.1mm, Pitch 0.5mm, Thermal Pad 2.95x1.76mm, IPC Low Density)
part A pins: 2 VIN (power) "The VIN pin powers the internal control circuitry and is monitored by an undervoltage comparator. The VIN pin is also connected to the collectors of the internal power NPN switch and linear output NPN. The VIN pin has high (See Datasheet)", 3 SHDN (in) "The SHDN pin is used to shut down the LT3500 and reduce quiescent current to a typical value of 12uA. The accurate 0.76V threshold and input current hysteresis can be used as an undervoltage lockout, preventing the regulator (See Datasheet)", 4 SS (in) "The SS pin is used to control the slew rate of the output of both the switching and linear regulators. A single capacitor from the SS pin to ground determines the regulators?ramp rate. For soft-start details see th(See Datasheet)", 5 PG (oc) "The power good pin is an open-collector output that sinks current when the FB or LFB falls below 90% of its nominal regulating voltage. For VIN above 2V, its output state remains true, although during SHDN, VIN undervoltage (See Datasheet)", 6 VC "The VC pin is the output of the error amplifier and the input to the peak switch current comparator. It is normally used for frequency compensation, but can also be used as a current clamp or control loop override. If the (See Datasheet)", 7 RT/SYNC (in) "This RT/SYNC pin provides two modes of setting the constant switch frequency. Connecting a resistor from the RT/SYNC pin to ground will set the RT/SYNC pin to a typical value of 1V. The resultant switching frequency will be (See Datasheet)", 10 ~{PG} (oc) "The power good bar pin is an open-collector output that sinks current when the FB or LFB rises above 90% of its nominal regulating voltage.", 11 FB (in) "The FB pin is the negative input to the switcher error amplifier. The output switches to regulate this pin to 0.8V with respect to the exposed ground pad. Bias current flows out of the FB pin.", 12 LFB (in) "The LFB pin is the negative input to the linear error amplifier. The LDRV pin servo’s to regulate this pin to 0.8V with respect to the exposed ground pad. Bias current flows out of the LFB pin.", 13 LDRV (out) "The LDRV pin is the emitter of an internal NPN that can be confi gured as an output of a linear regulator or as the drive for an external NPN high current regulator. Current flows out of the LDRV pin when the LFB pin voltage (See Datasheet)", 14 BST "The BST pin provides a higher than VIN base drive to the power NPN to ensure a low switch drop. A comparator to VIN imposes a minimum off time on the SW pin if the BST pin voltage drops too low. Forcing a SW off time allows (See Datasheet)", 15 SW (power) "The SW pin is the emitter of the on-chip power NPN. At switch off, the inductor will drive this pin below ground with a high dV/dt. An external catch diode to ground, close to the SW pin and respective VIN decoupling (See Datasheet)", 17 EP (power) "GND. The exposed pad is the only ground connection for the device. The exposed pad should be soldered to a large copper area to reduce thermal resistance. The GND pin also serves as small-signal ground. For ideal operation (See Datasheet)"
part B pins: 1 NC1 "No Connection. The NC pins are electrically isolated from the LT3500. The NC pins may be connected to PCB traces to aid PCB layout.", 8 NC8 "No Connection. The NC pins are electrically isolated from the LT3500. The NC pins may be connected to PCB traces to aid PCB layout.", 9 NC9 "No Connection. The NC pins are electrically isolated from the LT3500. The NC pins may be connected to PCB traces to aid PCB layout.", 16 NC16 "No Connection. The NC pins are electrically isolated from the LT3500. The NC pins may be connected to PCB traces to aid PCB layout."

## LT3500HDD#PBF
designator U?
Monolithic 2 A Step-Down Regulator Plus Linear Regulator / Controller, 3 to 36 V Vin, 12-pin SON (DD-12), -40 to 150 degC, Pb-Free; Manufacturer: Linear Technology; PartNumber: LT3500HDD#PBF; Number of Outputs: 2; Vin Max(V): 36; Vin Min(V): 3; DatasheetVersion: Rev. C; PackageVersion: Rev. A, 06/2010; PackageReference: DD-12; PackageDescription: 12-Pin Plastic DFN, Body 3 x 3 mm, Pitch 0.45 mm; Supplier 1: Digi-Key; Supplier Part Number 1: LT3500HDD#PBF-ND; RoHS: TRUE; Mounting Technology: Surface Mount; ComponentLink1Description: Manufacturer URL; ComponentLink1URL: http://www.linear.com/; ComponentLink2Description: Datasheet; ComponentLink2URL: http://cds.linear.com/docs/en/datasheet/3500fc.pdf; ComponentLink3Description: Package Specification; ComponentLink3URL: http://cds.linear.com/docs/en/packaging/DFN_12_05-08-1725.pdf
footprint LT-DD-12_V (SON, 12-Leads, Body 3x3mm, Pitch 0.45mm, Thermal Pad 2.38x1.65mm)
pins: 1 VIN (power) "The VIN pin powers the internal control circuitry and is monitored by an undervoltage comparator. The VIN pin is also connected to the collectors of the internal power NPN switch and linear output NPN. The VIN pin has high (See Datasheet)", 2 SHDN (in), 3 SS (in) "The SS pin is used to control the slew rate of the output of both the switching and linear regulators. A single capacitor from the SS pin to ground determines the regulators’ ramp rate. For soft-start details see th(See Datasheet)", 4 PG (oc) "The power good pin is an open-collector output that sinks current when the FB or LFB falls below 90% of its nominal regulating voltage. For VIN above 2V, its output state remains true, although during SHDN, VIN undervoltage (See Datasheet)", 5 VC "The VC pin is the output of the error amplifier and the input to the peak switch current comparator. It is normally used for frequency compensation, but can also be used as a current clamp or control loop override. If the (See Datasheet)", 6 RT/SYNC (in) "This RT/SYNC pin provides two modes of setting the constant switch frequency. Connecting a resistor from the RT/SYNC pin to ground will set the RT/SYNC pin to a typical value of 1V. The resultant switching frequency will be (See Datasheet)", 7 ~{PG} (oc) "The power good bar pin is an open-collector output that sinks current when the FB or LFB rises above 90% of its nominal regulating voltage.", 8 FB (in) "The FB pin is the negative input to the switcher error amplifier. The output switches to regulate this pin to 0.8V with respect to the exposed ground pad. Bias current flows out of the FB pin.", 9 LFB (in) "The LFB pin is the negative input to the linear error amplifier. The LDRV pin servo’s to regulate this pin to 0.8V with respect to the exposed ground pad. Bias current flows out of the LFB pin.", 10 LDRV (out) "The LDRV pin is the emitter of an internal NPN that can be configured as an output of a linear regulator or as the drive for an external NPN high current regulator. Current fl ows out of the LDRV pin when the LFB pin voltage (See Datasheet)", 11 BST "The BST pin provides a higher than VIN base drive to the power NPN to ensure a low switch drop. A comparator to VIN imposes a minimum off time on the SW pin if the BST pin voltage drops too low. Forcing a SW off time allows (See Datasheet)", 12 SW (power) "The SW pin is the emitter of the on-chip power NPN. At switch off, the inductor will drive this pin below ground with a high dV/dt. An external catch diode to ground, close to the SW pin and respective VIN decoupling (See Datasheet)", 13 EP (power) "GND. The Exposed Pad is the only ground connection for the device. The Exposed Pad should be soldered to a large copper area to reduce thermal resistance. The GND pin also serves as small-signal ground. For ideal operation (See Datasheet)"

## LT3500HDD#TRPBF
designator U?
Monolithic 2 A Step-Down Regulator Plus Linear Regulator / Controller, 3 to 36 V Vin, 12-pin SON (DD-12), -40 to 150 degC, Pb-Free, Tape and Reel; Manufacturer: Linear Technology; PartNumber: LT3500HDD#TRPBF; Number of Outputs: 2; Vin Max(V): 36; Vin Min(V): 3; DatasheetVersion: Rev. C; PackageVersion: Rev. A, 06/2010; PackageReference: DD-12; PackageDescription: 12-Pin Plastic DFN, Body 3 x 3 mm, Pitch 0.45 mm; Supplier 1: Digi-Key; Supplier Part Number 1: LT3500HDD#TRPBF-ND; Packing: Tape and Reel; RoHS: TRUE; Mounting Technology: Surface Mount; ComponentLink1Description: Manufacturer URL; ComponentLink1URL: http://www.linear.com/; ComponentLink2Description: Datasheet; ComponentLink2URL: http://cds.linear.com/docs/en/datasheet/3500fc.pdf; ComponentLink3Description: Package Specification; ComponentLink3URL: http://cds.linear.com/docs/en/packaging/DFN_12_05-08-1725.pdf
footprint LT-DD-12_V (SON, 12-Leads, Body 3x3mm, Pitch 0.45mm, Thermal Pad 2.38x1.65mm)
pins: 1 VIN (power) "The VIN pin powers the internal control circuitry and is monitored by an undervoltage comparator. The VIN pin is also connected to the collectors of the internal power NPN switch and linear output NPN. The VIN pin has high (See Datasheet)", 2 SHDN (in), 3 SS (in) "The SS pin is used to control the slew rate of the output of both the switching and linear regulators. A single capacitor from the SS pin to ground determines the regulators’ ramp rate. For soft-start details see th(See Datasheet)", 4 PG (oc) "The power good pin is an open-collector output that sinks current when the FB or LFB falls below 90% of its nominal regulating voltage. For VIN above 2V, its output state remains true, although during SHDN, VIN undervoltage (See Datasheet)", 5 VC "The VC pin is the output of the error amplifier and the input to the peak switch current comparator. It is normally used for frequency compensation, but can also be used as a current clamp or control loop override. If the (See Datasheet)", 6 RT/SYNC (in) "This RT/SYNC pin provides two modes of setting the constant switch frequency. Connecting a resistor from the RT/SYNC pin to ground will set the RT/SYNC pin to a typical value of 1V. The resultant switching frequency will be (See Datasheet)", 7 ~{PG} (oc) "The power good bar pin is an open-collector output that sinks current when the FB or LFB rises above 90% of its nominal regulating voltage.", 8 FB (in) "The FB pin is the negative input to the switcher error amplifier. The output switches to regulate this pin to 0.8V with respect to the exposed ground pad. Bias current flows out of the FB pin.", 9 LFB (in) "The LFB pin is the negative input to the linear error amplifier. The LDRV pin servo’s to regulate this pin to 0.8V with respect to the exposed ground pad. Bias current flows out of the LFB pin.", 10 LDRV (out) "The LDRV pin is the emitter of an internal NPN that can be configured as an output of a linear regulator or as the drive for an external NPN high current regulator. Current fl ows out of the LDRV pin when the LFB pin voltage (See Datasheet)", 11 BST "The BST pin provides a higher than VIN base drive to the power NPN to ensure a low switch drop. A comparator to VIN imposes a minimum off time on the SW pin if the BST pin voltage drops too low. Forcing a SW off time allows (See Datasheet)", 12 SW (power) "The SW pin is the emitter of the on-chip power NPN. At switch off, the inductor will drive this pin below ground with a high dV/dt. An external catch diode to ground, close to the SW pin and respective VIN decoupling (See Datasheet)", 13 EP (power) "GND. The Exposed Pad is the only ground connection for the device. The Exposed Pad should be soldered to a large copper area to reduce thermal resistance. The GND pin also serves as small-signal ground. For ideal operation (See Datasheet)"